# Altium schematic symbol library MyLibr1.SchLib: 87 symbols
Pins are listed as number, name and electrical type; pins without a type are passive.

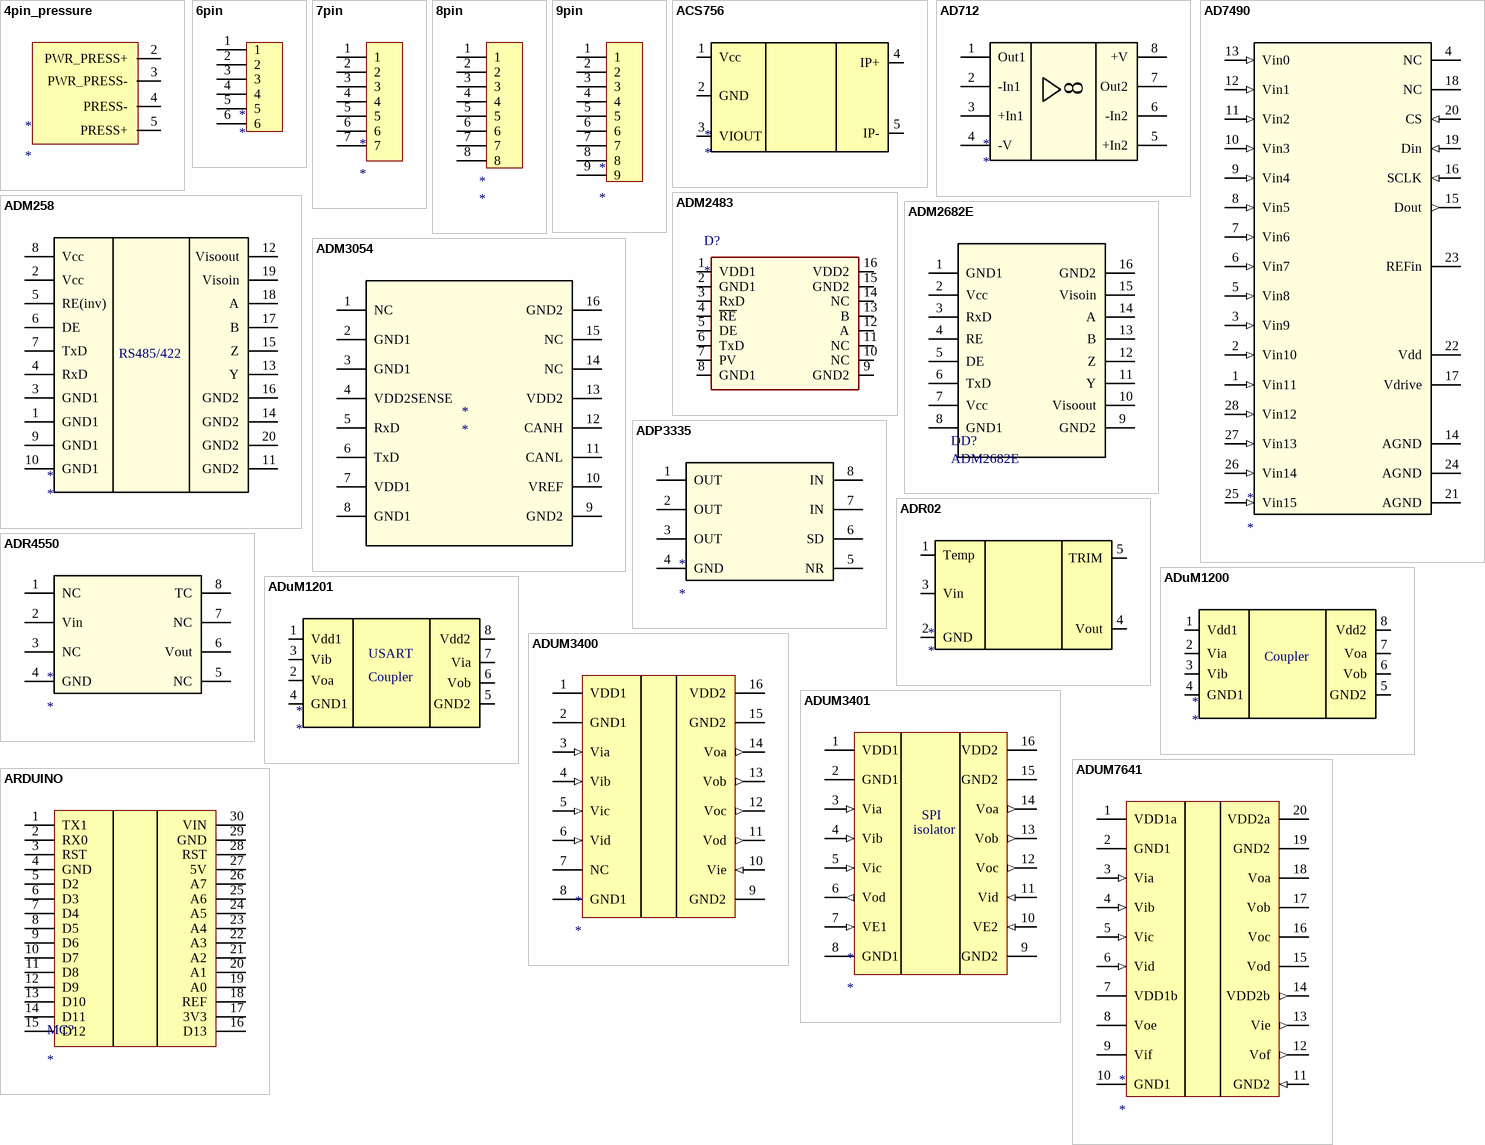
[diagram p0: symbols 4pin_pressure to ARDUINO]

## 4pin_pressure
designator *
footprint 4pin_pressure
pins: 2 PWR_PRESS+, 3 PWR_PRESS-, 4 PRESS-, 5 PRESS+

## 6pin
designator *
footprint 6pin
pins: 1, 2, 3, 4, 5, 6

## 7pin
designator *
pins: 1, 2, 3, 4, 5, 6, 7

## 8pin
designator *
footprint 10pin
pins: 1, 2, 3, 4, 5, 6, 7, 8

## 9pin
designator *
footprint 9PIN
pins: 1, 2, 3, 4, 5, 6, 7, 8, 9

## ACS756
designator *
pins: 1 Vcc, 2 GND, 3 VIOUT, 4 IP+, 5 IP-

## AD712
designator *
pins: 1 Out1, 2 -In1, 3 +In1, 4 -V, 5 +In2, 6 -In2, 7 Out2, 8 +V

## AD7490
designator *
footprint AD7490 (TSSOP, 28-Leads)
footprint Arduino Mini
pins: 1 Vin11 (in), 2 Vin10 (in), 3 Vin9 (in), 4 NC, 5 Vin8 (in), 6 Vin7 (in), 7 Vin6 (in), 8 Vin5 (in), 9 Vin4 (in), 10 Vin3 (in), 11 Vin2 (in), 12 Vin1 (in), 13 Vin0 (in), 14 AGND (power), 15 Dout (out), 16 SCLK (in), 17 Vdrive (power), 18 NC, 19 Din (in), 20 CS (in), 21 AGND (power), 22 Vdd (power), 23 REFin (power), 24 AGND (power), 25 Vin15 (in), 26 Vin14 (in), 27 Vin13 (in), 28 Vin12 (in)

## ADM258
designator *
pins: 1 GND1 (power), 2 Vcc (power), 3 GND1 (power), 4 RxD, 5 RE(inv), 6 DE, 7 TxD, 8 Vcc (power), 9 GND1 (power), 10 GND1 (power), 11 GND2 (power), 12 Visoout (power), 13 Y, 14 GND2 (power), 15 Z, 16 GND2 (power), 17 B, 18 A, 19 Visoin (power), 20 GND2 (power)
text: RS485/422

## ADM2483
designator D?
footprint ADM2483 (SOIC, 16-Leads, Body 10,30x7,50mm, Pitch 1,27mm, IPC Medium Density)
pins: 1 VDD1, 2 GND1, 3 RxD, 4 ~{RE}, 5 DE, 6 TxD, 7 PV, 8 GND1, 9 GND2, 10 NC, 11 NC, 12 A, 13 B, 14 NC, 15 GND2, 16 VDD2

## ADM2682E
designator DD?
footprint SOIC127P1030X265-16N (SOIC, 16-Leads, Body 12,75x7,50mm, Pitch 1,27mm, IPC Medium Density)
pins: 1 GND1 (power), 2 Vcc (power), 3 RxD, 4 RE, 5 DE, 6 TxD, 7 Vcc (power), 8 GND1 (power), 9 GND2 (power), 10 Visoout (power), 11 Y, 12 Z, 13 B, 14 A, 15 Visoin (power), 16 GND2 (power)

## ADM3054
designator *
footprint SOIC16N (SOIC, 16-Leads, Body 12,75x7,50mm, Pitch 1,27mm, IPC Medium Density)
pins: 1 NC, 2 GND1, 3 GND1, 4 VDD2SENSE, 5 RxD, 6 TxD, 7 VDD1, 8 GND1, 9 GND2, 10 VREF, 11 CANL, 12 CANH, 13 VDD2, 14 NC, 15 NC, 16 GND2

## ADP3335
designator *
footprint MSOP-8
pins: 1 OUT, 2 OUT, 3 OUT, 4 GND, 5 NR, 6 SD, 7 IN, 8 IN

## ADR02
designator *
footprint SOT95P245X110-5N (SOT23, 5-Leads, Body 2,90x2,45mm, Pitch 0,95mm, IPC Medium Density)
footprint SOT95P245X110-5N (SOT23, 5-Leads, Body 2,90x2,45mm, Pitch 0,95mm, IPC Medium Density)
pins: 1 Temp, 2 GND, 3 Vin, 4 Vout, 5 TRIM

## ADR4550
designator *
footprint SOIC8N (SOIC, 8-Leads, Body 4,90x3,90mm, Pitch 1,27mm, IPC Medium Density)
pins: 1 NC, 2 Vin, 3 NC, 4 GND, 5 NC, 6 Vout, 7 NC, 8 TC

## ADuM1200
designator *
pins: 1 Vdd1, 2 Via, 3 Vib, 4 GND1, 5 GND2, 6 Vob, 7 Voa, 8 Vdd2
text: Coupler

## ADuM1201
designator *
pins: 1 Vdd1, 2 Voa, 3 Vib, 4 GND1, 5 GND2, 6 Vob, 7 Via, 8 Vdd2
text: USART; Coupler

## ADUM3400
designator *
footprint SOIC-16 (SOIC, 16-Leads, Body 10,30x7,50mm, Pitch 1,27mm, IPC Medium Density)
pins: 1 VDD1, 2 GND1, 3 Via (in), 4 Vib (in), 5 Vic (in), 6 Vid (in), 7 NC, 8 GND1, 9 GND2, 10 Vie (in), 11 Vod (out), 12 Voc (out), 13 Vob (out), 14 Voa (out), 15 GND2, 16 VDD2

## ADUM3401
designator *
footprint SOIC-16 (SOIC, 16-Leads, Body 10,30x7,50mm, Pitch 1,27mm, IPC Medium Density)
pins: 1 VDD1, 2 GND1, 3 Via (in), 4 Vib (in), 5 Vic (in), 6 Vod (out), 7 VE1 (in), 8 GND1, 9 GND2, 10 VE2 (in), 11 Vid (in), 12 Voc (out), 13 Vob (out), 14 Voa (out), 15 GND2, 16 VDD2
text: SPI; isolator

## ADUM7641
designator *
footprint QSOP20
footprint QSOP-20
pins: 1 VDD1a, 2 GND1, 3 Via (in), 4 Vib (in), 5 Vic (in), 6 Vid (in), 7 VDD1b, 8 Voe, 9 Vif, 10 GND1, 11 GND2 (in), 12 Vof (out), 13 Vie (out), 14 VDD2b (out), 15 Vod, 16 Voc, 17 Vob, 18 Voa, 19 GND2, 20 VDD2a

## ARDUINO
designator MC?
footprint Arduino_Nano
pins: 1 TX1, 2 RX0, 3 RST, 4 GND, 5 D2, 6 D3, 7 D4, 8 D5, 9 D6, 10 D7, 11 D8, 12 D9, 13 D10, 14 D11, 15 D12, 16 D13, 17 3V3, 18 REF, 19 A0, 20 A1, 21 A2, 22 A3, 23 A4, 24 A5, 25 A6, 26 A7, 27 5V, 28 RST, 29 GND, 30 VIN

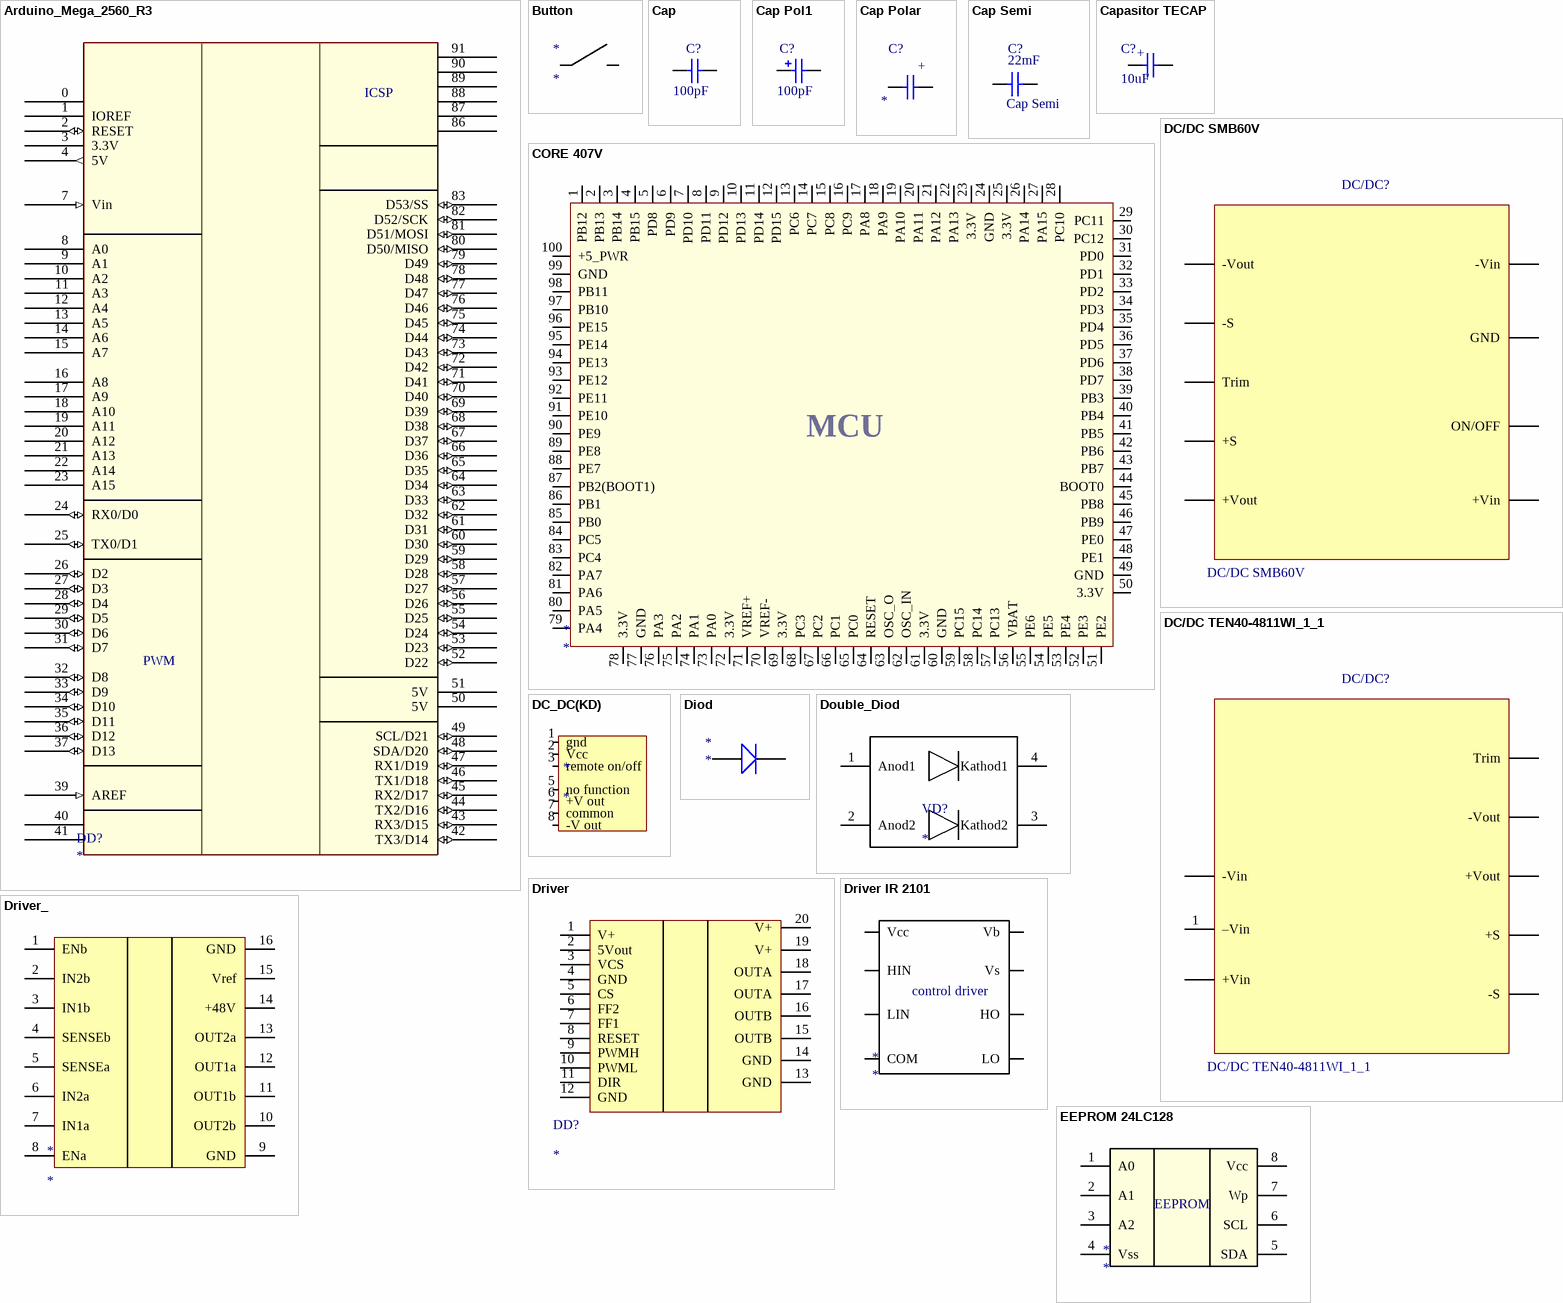
[diagram p1: symbols Arduino_Mega_2560_R3 to EEPROM 24LC128]

## Arduino_Mega_2560_R3
designator DD?
footprint Arduino_Mega_2560_R3
pins: 0  , 1 IOREF, 2 RESET (io), 3 3.3V (power), 4 5V (out), 5 GND (power) hidden to GND, 6 GND (power) hidden to GND, 7 Vin (in), 8 A0, 9 A1, 10 A2, 11 A3, 12 A4, 13 A5, 14 A6, 15 A7, 16 A8, 17 A9, 18 A10, 19 A11, 20 A12, 21 A13, 22 A14, 23 A15, 24 RX0/D0 (io), 25 TX0/D1 (io), 26 D2 (io), 27 D3 (io), 28 D4 (io), 29 D5 (io), 30 D6 (io), 31 D7 (io), 32 D8 (io), 33 D9 (io), 34 D10 (io), 35 D11 (io), 36 D12 (io), 37 D13 (io), 38 GND (power) hidden to GND, 39 AREF (in), 40  , 41  , 42 TX3/D14 (io), 43 RX3/D15 (io), 44 TX2/D16 (io), 45 RX2/D17 (io), 46 TX1/D18 (io), 47 RX1/D19 (io), 48 SDA/D20 (io), 49 SCL/D21 (io), 50 5V (power), 51 5V (power), 52 D22 (io), 53 D23 (io), 54 D24 (io), 55 D25 (io), 56 D26 (io), 57 D27 (io), 58 D28 (io), 59 D29 (io), 60 D30 (io), 61 D31 (io), 62 D32 (io), 63 D33 (io), 64 D34 (io), 65 D35 (io), 66 D36 (io), 67 D37 (io), 68 D38 (io), 69 D39 (io), 70 D40 (io), 71 D41 (io), 72 D42 (io), 73 D43 (io), 74 D44 (io), 75 D45 (io), 76 D46 (io), 77 D47 (io), 78 D48 (io), 79 D49 (io), 80 D50/MISO (io), 81 D51/MOSI (io), 82 D52/SCK (io), 83 D53/SS (io), 84 GND (power) hidden to GND, 85 GND (power) hidden to GND, 86  , 87  , 88  , 89  , 90  , 91  
text: ICSP; PWM

## Button
designator *
footprint Button (SODFL, 2-Leads, Body 3,70x8,00mm, IPC Medium Density)
pins: 1, 2

## Cap
designator C?  value 100pF  (hidden comment: Cap)
Capacitor; Published: 8-Jun-2000; LatestRevisionDate: 17-Jul-2002; LatestRevisionNote: Re-released for DXP Platform.; PackageReference: RAD-0.3; Publisher: Altium Limited; PackageDescription: Radial Cap, Thru-Hole; 2 Leads; 0.3 in Pin Spacing
footprint 6-0805_M
pins: 1, 2

## Cap Pol1
designator C?  value 100pF  (hidden comment: Cap Pol1)
Polarized Capacitor (Radial); Published: 8-Jun-2000; LatestRevisionDate: 17-Jul-2002; LatestRevisionNote: Re-released for DXP Platform.; PackageReference: RB7.6-15; Publisher: Altium Limited; PackageDescription: Polarized Capacitor (Radial); 2 Leads
footprint K50-35 (D6.3)
pins: 1, 2
1 alternate drawing of the same symbol

## Cap Polar
designator C?
footprint K50-35 (D6.3)
pins: 1, 2
text: +

## Cap Semi
designator C?  value 22mF
Capacitor (Semiconductor SIM Model); Published: 8-Jun-2000; LatestRevisionDate: 29-May-2009; LatestRevisionNote: IPC-7351 Footprint Added.; PackageReference: C1206; Publisher: Altium Limited; PackageDescription: Chip Capacitor
footprint C1206 (Chip Capacitor, Body 3.2x1.6mm, IPC High Density)
footprint 0402 (Chip Capacitor, Body 1.0x0.5mm, IPC High Density)
footprint C2512 (Chip Capacitor, Body 2.54x1.27mm, IPC High Density)
footprint 1608[0603] (Chip Capacitor, Body 1.6x0.8mm, IPC High Density)
footprint C1210 (Chip Capacitor, Body 3.2x2.5mm, IPC High Density)
footprint C_1812 (Chip Capacitor, Body 4.5x3.2mm, IPC High Density)
footprint C_0805 (Chip Capacitor, Body 2.0x1.3mm, IPC High Density)
pins: 1, 2

## Capasitor TECAP
designator C?, comment 10uF
footprint TECAP (Chip Capacitor, 2-Leads, Body 3,50x2,80mm, IPC Medium Density)
pins: 1, 2
text: +

## CORE 407V
designator *
footprint CORE 407
pins: 1 PB12, 2 PB13, 3 PB14, 4 PB15, 5 PD8, 6 PD9, 7 PD10, 8 PD11, 9 PD12, 10 PD13, 11 PD14, 12 PD15, 13 PC6, 14 PC7, 15 PC8, 16 PC9, 17 PA8, 18 PA9, 19 PA10, 20 PA11, 21 PA12, 22 PA13, 23 3.3V, 24 GND, 25 3.3V, 26 PA14, 27 PA15, 28 PC10, 29 PC11, 30 PC12, 31 PD0, 32 PD1, 33 PD2, 34 PD3, 35 PD4, 36 PD5, 37 PD6, 38 PD7, 39 PB3, 40 PB4, 41 PB5, 42 PB6, 43 PB7, 44 BOOT0, 45 PB8, 46 PB9, 47 PE0, 48 PE1, 49 GND, 50 3.3V, 51 PE2, 52 PE3, 53 PE4, 54 PE5, 55 PE6, 56 VBAT, 57 PC13, 58 PC14, 59 PC15, 60 GND, 61 3.3V, 62 OSC_IN, 63 OSC_O, 64 RESET, 65 PC0, 66 PC1, 67 PC2, 68 PC3, 69 3.3V, 70 VREF-, 71 VREF+, 72 3.3V, 73 PA0, 74 PA1, 75 PA2, 76 PA3, 77 GND, 78 3.3V, 79 PA4, 80 PA5, 81 PA6, 82 PA7, 83 PC4, 84 PC5, 85 PB0, 86 PB1, 87 PB2(BOOT1), 88 PE7, 89 PE8, 90 PE9, 91 PE10, 92 PE11, 93 PE12, 94 PE13, 95 PE14, 96 PE15, 97 PB10, 98 PB11, 99 GND, 100 +5_PWR
text: MCU

## DC/DC SMB60V
designator DC/DC?
datasheet: http://newet.ru/upload/iblock/da3/da32c35c0007bb917bca288ed4fe9d4e.pdf
footprint SMB60V
pins: +S, +Vin, +Vout, -S, -Vin, -Vout, GND, ON/OFF, Trim

## DC/DC TEN40-4811WI_1_1
designator DC/DC?
datasheet: http://www.tracopower.com/products/ten40wi-application.pdf
footprint TEN 40
pins: 1 –Vin, +S, +Vin, +Vout, -S, -Vin, -Vout, Trim

## DC_DC(KD)
designator *
footprint SIP-8
pins: 1 gnd, 2 Vcc, 3 remote on/off, 5 no function, 6 +V out, 7 common, 8 -V out

## Diod
designator *
footprint 6-0805_M
footprint do-41
footprint DIOMELF2511N (MELF Diode, 2-Leads, Body 2,55x1,10mm, IPC Medium Density)
pins: 1 A, 2 K

## Double_Diod
designator VD?
footprint Double_Diod
pins: 1 Anod1, 2 Anod2, 3 Kathod2, 4 Kathod1

## Driver
designator DD?
footprint Driver_Pads
pins: 1 V+, 2 5Vout, 3 VCS, 4 GND, 5 CS, 6 FF2, 7 FF1, 8 RESET, 9 PWMH, 10 PWML, 11 DIR, 12 GND, 13 GND, 14 GND, 15 OUTB, 16 OUTB, 17 OUTA, 18 OUTA, 19 V+, 20 V+

## Driver IR 2101
designator *
footprint Dip 8 for LUT
pins: 1 Vcc, 2 HIN, 3 LIN, 4 COM, 5 LO, 6 Vs, 7 HO, 8 Vb
text: control driver

## Driver_
designator *
footprint Driver_
pins: 1 ENb, 2 IN2b, 3 IN1b, 4 SENSEb, 5 SENSEa, 6 IN2a, 7 IN1a, 8 ENa, 9 GND, 10 OUT2b, 11 OUT1b, 12 OUT1a, 13 OUT2a, 14 +48V, 15 Vref, 16 GND

## EEPROM 24LC128
designator *
pins: 1 A0, 2 A1, 3 A2, 4 Vss, 5 SDA, 6 SCL, 7 Wp, 8 Vcc
text: EEPROM

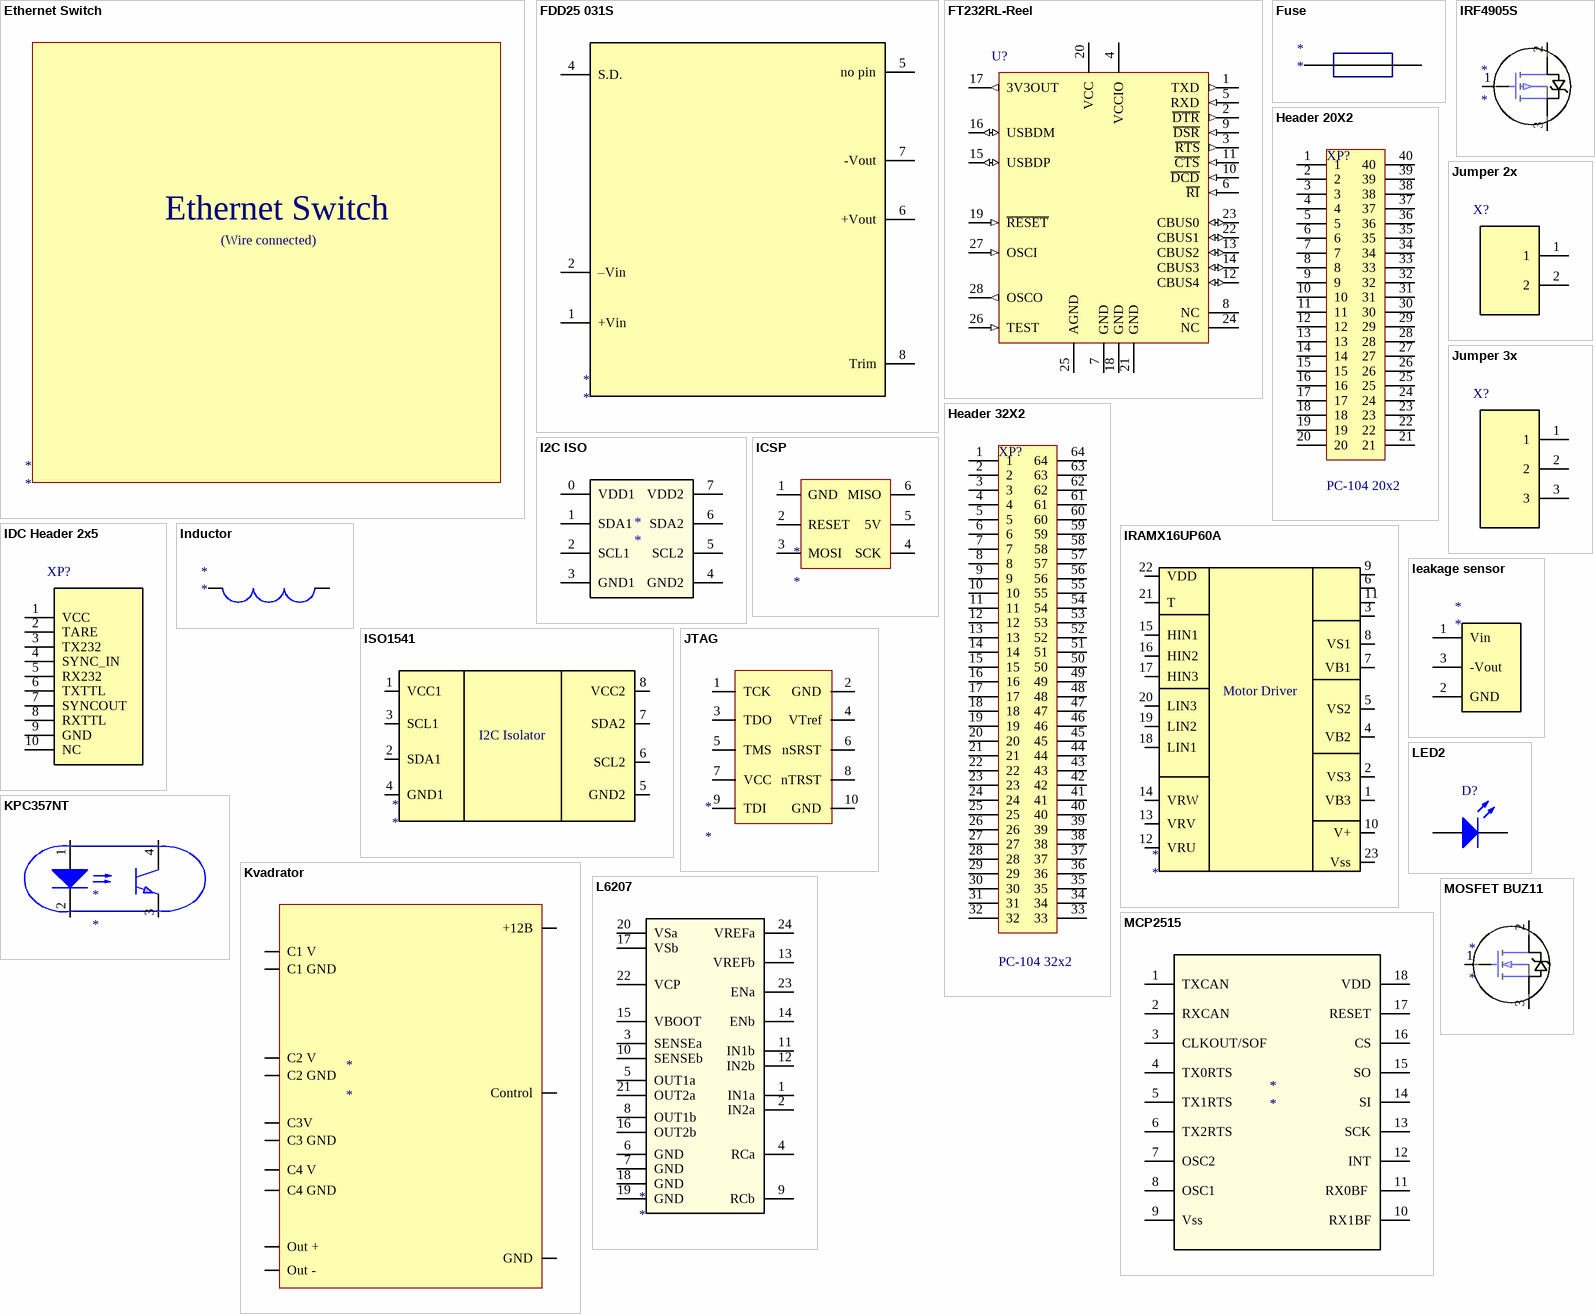
[diagram p2: symbols Ethernet Switch to MOSFET BUZ11]

## Ethernet Switch
designator *
text: (Wire connected)

## FDD25 031S
designator *
footprint FDD25 - 03S1
pins: 1 +Vin, 2 –Vin, 4 S.D., 5 no pin, 6 +Vout, 7 -Vout, 8 Trim

## FT232RL-Reel
designator U?
USB UART Asynchronous Serial Data Transfer Chip, SSOP-28, Tape and Reel; Published: 19-Aug-2010; DatasheetVersion: ver 2.07, Jul-2010; PackageVersion: 2010; PackageReference: SSOP-28; Publisher: Altium Limited; PackageDescription: 28-Pin Small Outline Package 0.65 mm Pitch; ComponentLink1Description: Manufacturer Link; ComponentLink1URL: http://www.ftdichip.com/Products/ICs/FT232R.htm; ComponentLink2Description: Datasheet; ComponentLink2URL: http://www.ftdichip.com/Support/Documents/DataSheets/ICs/DS_FT232R.pdf
footprint SSOP-28_L
footprint SSOP-28_M (SOP, 28-Leads, Body 10.2x5.3mm, Pitch 0.65mm, IPC Low Density)
footprint SSOP-28_N (SOP, 28-Leads, Body 10.2x5.3mm, Pitch 0.65mm, IPC Medium Density)
pins: 1 TXD (out), 2 ~{DTR} (out), 3 ~{RTS} (out), 4 VCCIO (power), 5 RXD (in), 6 ~{RI} (in), 7 GND (power), 8 NC, 9 ~{DSR} (in), 10 ~{DCD} (in), 11 ~{CTS} (in), 12 CBUS4 (io), 13 CBUS2 (io), 14 CBUS3 (io), 15 USBDP (io), 16 USBDM (io), 17 3V3OUT (out), 18 GND (power), 19 ~{RESET} (in), 20 VCC (power), 21 GND (power), 22 CBUS1 (io), 23 CBUS0 (io), 24 NC, 25 AGND (power), 26 TEST (in), 27 OSCI (in), 28 OSCO (out)

## Fuse
designator *
pins: 1, 2

## Header 20X2
designator XP?, comment PC-104 20x2
Header, 20-Pin, Dual row; LatestRevisionDate: 17-Jul-2002; LatestRevisionNote: Re-released for DXP Platform.; Publisher: Altium Limited
footprint 2x20 PC-104 (Connector; Header; 20x2 Position)
pins: 1, 2, 3, 4, 5, 6, 7, 8, 9, 10, 11, 12, 13, 14, 15, 16, 17, 18, 19, 20, 21, 22, 23, 24, 25, 26, 27, 28, 29, 30, 31, 32, 33, 34, 35, 36, 37, 38, 39, 40

## Header 32X2
designator XP?, comment PC-104 32x2
Header, 32-Pin, Dual row; LatestRevisionDate: 17-Jul-2002; LatestRevisionNote: Re-released for DXP Platform.; Publisher: Altium Limited
footprint 2x32 PC-104 (Connector; Header; 32x2 Position 2.54mm)
pins: 1 "test", 2, 3, 4, 5, 6, 7, 8, 9, 10, 11, 12, 13, 14, 15, 16, 17, 18, 19, 20, 21, 22, 23, 24, 25, 26, 27, 28, 29, 30, 31, 32, 33, 34, 35, 36, 37, 38, 39, 40, 41, 42, 43, 44, 45, 46, 47, 48, 49, 50, 51, 52, 53, 54, 55, 56, 57, 58, 59, 60, 61, 62, 63, 64

## I2C ISO
designator *
pins: 0 VDD1, 1 SDA1, 2 SCL1, 3 GND1, 4 GND2, 5 SCL2, 6 SDA2, 7 VDD2

## ICSP
designator *
footprint 6pin
footprint SPI
pins: 1 GND, 2 RESET, 3 MOSI, 4 SCK, 5 5V, 6 MISO

## IDC Header 2x5
designator XP?  (value not drawn)
footprint IDC-10F 2x5 2.0mm
pins: 1 VCC, 2 TARE, 3 TX232, 4 SYNC_IN, 5 RX232, 6 TXTTL, 7 SYNCOUT, 8 RXTTL, 9 GND, 10 NC

## Inductor
designator *
footprint 0805
pins: 1, 2 5

## IRAMX16UP60A
designator *
footprint IRAMX16UP60A
pins: 1 VB3, 2 VS3, 3 VS3, 4 VB2, 5 VS2, 6 VS2, 7 VB1, 8 VS1, 9 VS1, 10 V+, 11 V+, 12 VRU, 13 VRV, 14 VRW, 15 HIN1, 16 HIN2, 17 HIN3, 18 LIN1, 19 LIN2, 20 LIN3, 21 T, 22 VDD, 23 Vss
text: Motor Driver

## IRF4905S
designator *
footprint IRF4905S (D2-PAK, 3-Pads, Body 8,21x8,63mm (max), IPC Medium Density)
pins: 1, 2, 3

## ISO1541
designator *
pins: 1 VCC1, 2 SDA1, 3 SCL1, 4 GND1, 5 GND2, 6 SCL2, 7 SDA2, 8 VCC2
text: I2C Isolator

## JTAG
designator *
footprint JTAG
pins: 1 TCK, 2 GND, 3 TDO, 4 VTref, 5 TMS, 6 nSRST, 7 VCC, 8 nTRST, 9 TDI, 10 GND

## Jumper 2x
designator X?  (value not drawn)
footprint Jumper_2 (перемычка для плат)
pins: 1, 2

## Jumper 3x
designator X?  (value not drawn)
footprint Power PLUG
footprint Jumper_3 (перемычка для плат)
pins: 1, 2, 3

## KPC357NT
designator *
footprint Micro
pins: 1 A, 2 K, 3, 4

## Kvadrator
designator *
footprint Kvadrator
pins: 0 +12B, 0 C1 GND, 0 C1 V, 0 C2 V, 0 C2 GND, 0 C3V, 0 C3 GND, 0 C4 V, 0 C4 GND, 0 Out +, 0 Out -, 0 Control, 1 GND

## L6207
designator *
footprint SO24
pins: 1 IN1a, 2 IN2a, 3 SENSEa, 4 RCa, 5 OUT1a, 6 GND, 7 GND, 8 OUT1b, 9 RCb, 10 SENSEb, 11 IN1b, 12 IN2b, 13 VREFb, 14 ENb, 15 VBOOT, 16 OUT2b, 17 VSb, 18 GND, 19 GND, 20 VSa, 21 OUT2a, 22 VCP, 23 ENa, 24 VREFa

## leakage sensor
designator *
footprint SOT23
pins: 1 Vin, 2 GND, 3 -Vout

## LED2
designator D?  (value not drawn)
Typical RED, GREEN, YELLOW, AMBER GaAs LED; Published: 8-Jun-2000; LatestRevisionDate: 17-Jul-2002; LatestRevisionNote: Re-released for DXP Platform.; PackageVersion: Feb-2002; PackageReference: 3.2X1.6X1.1; Publisher: Altium Limited; PackageDescription: SM LED; 2 Flat Leads
footprint 3.2X1.6X1.1 (Footprint not found)
footprint 6-0805_M
pins: 1 A, 2 K

## MCP2515
designator *
footprint SOIC18N (SOIC, 18-Leads, Body 11,53x7,50mm, Pitch 1,27mm, IPC Medium Density)
pins: 1 TXCAN, 2 RXCAN, 3 CLKOUT/SOF, 4 TX0RTS, 5 TX1RTS, 6 TX2RTS , 7 OSC2, 8 OSC1 , 9 Vss, 10 RX1BF, 11 RX0BF , 12 INT, 13 SCK, 14 SI, 15 SO, 16 CS, 17 RESET, 18 VDD

## MOSFET BUZ11
designator *
footprint Mosfet
pins: 1, 2, 3

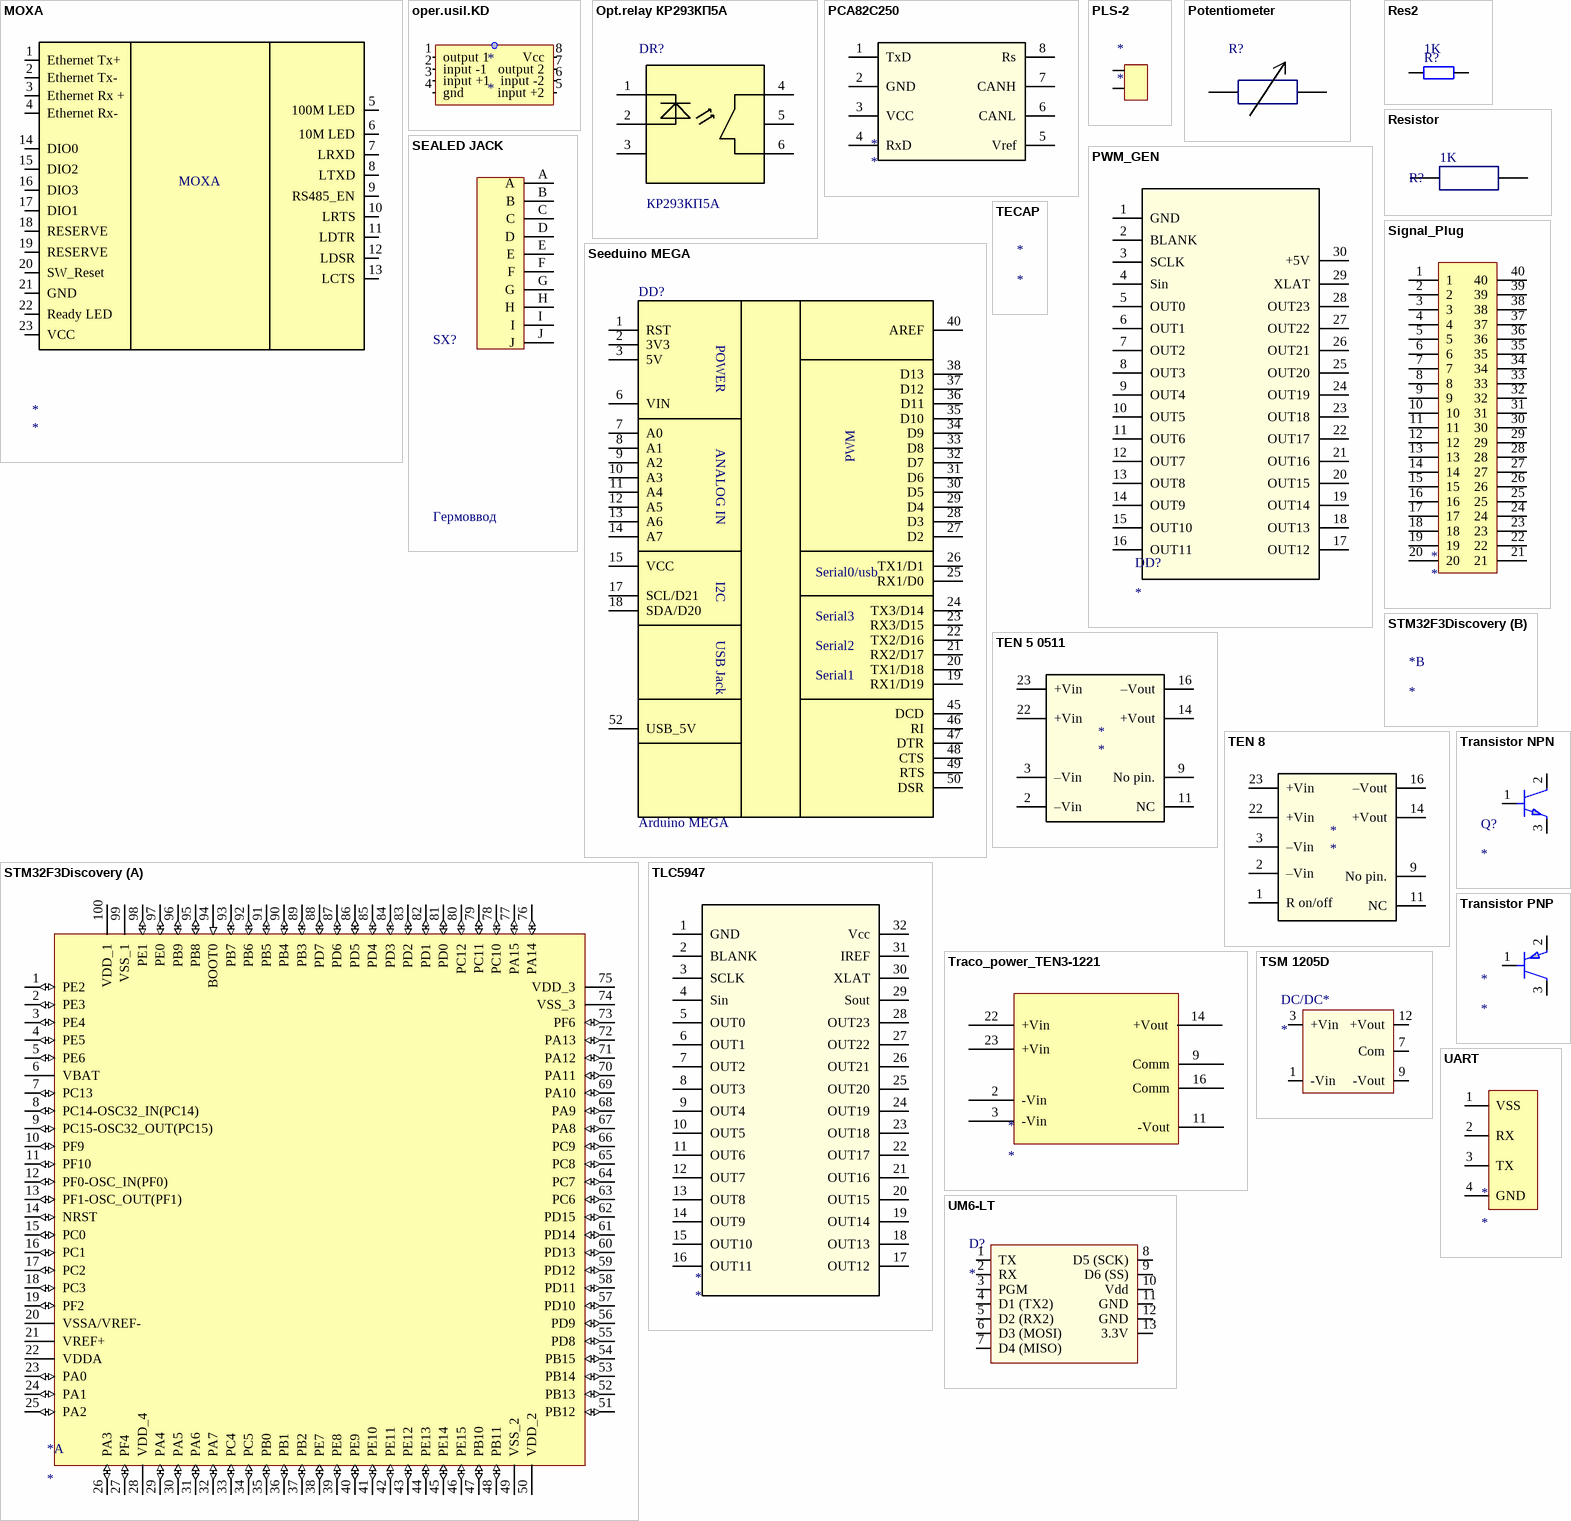
[diagram p3: symbols MOXA to UM6-LT]

## MOXA
designator *
pins: 1 Ethernet Tx+, 2 Ethernet Tx-, 3 Ethernet Rx + , 4 Ethernet Rx-, 5 100M LED, 6 10M LED, 7 LRXD, 8 LTXD, 9 RS485_EN, 10 LRTS, 11 LDTR, 12 LDSR, 13 LCTS, 14 DIO0, 15 DIO2, 16 DIO3, 17 DIO1, 18 RESERVE, 19 RESERVE, 20 SW_Reset, 21 GND, 22 Ready LED, 23 VCC

## oper.usil.KD
designator *
footprint DIP-8
pins: 1 output 1, 2 input -1, 3 input +1, 4 gnd, 5 input +2, 6 input -2, 7 output 2, 8 Vcc

## Opt.relay КР293КП5А
designator DR?, comment КР293КП5А
footprint DIP-6
pins: 1, 2, 3, 4, 5, 6

## PCA82C250
designator *
footprint SOIC8N (SOIC, 8-Leads, Body 4,90x3,90mm, Pitch 1,27mm, IPC Medium Density)
pins: 1 TxD, 2 GND, 3 VCC, 4 RxD, 5 Vref, 6 CANL, 7 CANH, 8 Rs

## PLS-2
designator *
footprint PLS-2
pins: 1, 2

## Potentiometer
designator R?  (value not drawn)
footprint 3266W
pins: 1, 2, 3

## PWM_GEN
designator DD?
footprint PWM_GEN
pins: 1 GND, 2 BLANK, 3 SCLK, 4 Sin, 5 OUT0, 6 OUT1, 7 OUT2, 8 OUT3, 9 OUT4, 10 OUT5, 11 OUT6, 12 OUT7, 13 OUT8, 14 OUT9, 15 OUT10, 16 OUT11, 17 OUT12, 18 OUT13, 19 OUT14, 20 OUT15, 21 OUT16, 22 OUT17, 23 OUT18, 24 OUT19, 25 OUT20, 26 OUT21, 27 OUT22, 28 OUT23, 29 XLAT, 30 +5V

## Res2
designator R?  value 1K  (hidden comment: Res2)
Resistor; Published: 8-Jun-2000; LatestRevisionDate: 17-Jul-2002; LatestRevisionNote: Re-released for DXP Platform.; PackageReference: AXIAL-0.4; Publisher: Altium Limited; PackageDescription: Axial Device, Thru-Hole; 2 Leads; 0.4 in Pin Spacing
footprint 6-0805_M
pins: 1, 2

## Resistor
designator R?  value 1K  (hidden comment: Resistor)
Published: 8-Jun-2000; LatestRevisionDate: 29-May-2009; LatestRevisionNote: IPC-7351 Footprint Added.; PackageReference: J1-0603; Publisher: Altium Limited; PackageDescription: Chip Resistor
footprint R_C1-4 1W
footprint 6-0805_M
pins: 1, 2

## SEALED JACK
designator SX?, comment Гермоввод
footprint SealedJack 10 (Гермоввод 10 пинов)
footprint SealedJack 4 (Гермоввод 4 пина)
footprint SealedJack 7 Round (Гермоввод 7 пинов)
footprint SEALEDJACK 7 long (Гермоввод 7 пинов, вытянутой гнездо)
footprint SEALEDJACK 4 long (Гермоввод 4 пинов, вытянутое гнездо)
pins: A, B, C, D, E, F, G, H, I, J
2 alternate drawings of the same symbol

## Seeduino MEGA
designator DD?, comment Arduino MEGA
footprint Seeduino Mega w/USB
pins: 1 RST, 2 3V3, 3 5V, 4 GND (power) hidden to GND, 5 GND (power) hidden to GND, 6 VIN, 7 A0, 8 A1, 9 A2, 10 A3, 11 A4, 12 A5, 13 A6, 14 A7, 15 VCC, 16 GND (power) hidden to GND, 17 SCL/D21, 18 SDA/D20, 19 RX1/D19, 20 TX1/D18, 21 RX2/D17, 22 TX2/D16, 23 RX3/D15, 24 TX3/D14, 25 RX1/D0, 26 TX1/D1, 27 D2, 28 D3, 29 D4, 30 D5, 31 D6, 32 D7, 33 D8, 34 D9, 35 D10, 36 D11, 37 D12, 38 D13, 39 GND (power) hidden to GND, 40 AREF, 45 DCD, 46 RI, 47 DTR, 48 CTS, 49 RTS, 50 DSR, 51 GND hidden to GND, 52 USB_5V
text: POWER; ANALOG IN; PWM; I2C; Serial0/usb; Serial3; USB Jack; Serial2; Serial1

## Signal_Plug
designator *
pins: 1, 2, 3, 4, 5, 6, 7, 8, 9, 10, 11, 12, 13, 14, 15, 16, 17, 18, 19, 20, 21, 22, 23, 24, 25, 26, 27, 28, 29, 30, 31, 32, 33, 34, 35, 36, 37, 38, 39, 40

## STM32F3Discovery
designator *
part A pins: 1 PE2 (io) "PE2/TRACECK,TIM3_CH1,TSC_G7_IO1,EVENTOUT", 2 PE3 (io) "PE3/TRACED0,TIM3_CH2,TSC_G7_IO2,EVENTOUT", 3 PE4 (io) "PE4/TRACED1,TIM3_CH3,TSC_G7_IO3,EVENTOUT", 4 PE5 (io) "PE5/TRACED2,TIM3_CH4,TSC_G7_IO4,EVENTOUT", 5 PE6 (io) "PE6/TRACED3,EVENTOUT/WKUP3,RTC_TAMP3", 6 VBAT (power) "Backup power supply", 7 PC13 (io) "PC13/TIM1_CH1N/WKUP2,RTC_TAMP1,RTC_TS,RTC_OUT", 8 PC14-OSC32_IN(PC14) (io) "PC14-OSC32_IN(PC14)/OSC32_IN", 9 PC15-OSC32_OUT(PC15) (io) "PC15-OSC32_OUT(PC15)/OSC32_OUT", 10 PF9 (io) "PF9/TIM15_CH1,SPI2_SCK,EVENTOUT", 11 PF10 (io) "PF10/TIM15_CH2,SPI2_SCK,EVENTOUT", 12 PF0-OSC_IN(PF0) (io) "PF0-OSC_IN(PF0)/TIM1_CH3N,I2C2_SDA/OSC_IN", 13 PF1-OSC_OUT(PF1) (io) "PF1-OSC_OUT(PF1)/I2C2_SCL/OSC_OUT", 14 NRST (io) "Device reset input / internal reset output (active low)", 15 PC0 (io) "PC0/EVENTOUT/ADC12_IN6,COMP7_INM", 16 PC1 (io) "PC1/EVENTOUT/ADC12_IN7,COMP7_INP", 17 PC2 (io) "PC2/COMP7_OUT,EVENTOUT/ADC12_IN8", 18 PC3 (io) "PC3/TIM1_BKIN2,EVENTOUT/ADC12_IN9", 19 PF2 (io) "PF2/EVENTOUT/ADC12_IN10", 20 VSSA/VREF- (power) "Analog ground/Negative reference voltage", 21 VREF+ (power) "Positive reference voltage", 22 VDDA (power) "Analog power supply", 23 PA0 (io) "PA0/USART2_CTS,TIM2_CH1_ETR,TIM8_BKIN,TIM8_ETR,TSC_G1_IO1,COMP1_OUT,EVENTOUT/ADC1_IN1,COMP1_INM,RTC_TAMP2,WKUP1,COMP7_INP", 24 PA1 (io) "PA1/USART2_RTS,TIM2_CH2,TSC_G1_IO2,TIM15_CH1N,RTC_REFIN,EVENTOUT/ADC1_IN2,COMP1_INP,OPAMP1_VINP,OPAMP3_VINP", 25 PA2 (io) "PA2/USART2_TX,TIM2_CH3,TIM15_CH1,TSC_G1_IO3,COMP2_OUT,EVENTOUT/ADC1_IN3,COMP2_INM,OPAMP1_VOUT", 26 PA3 (io) "PA3/USART2_RX,TIM2_CH4,TIM15_CH2,TSC_G1_IO4,EVENTOUT/ADC1_IN4,OPAMP1_VINP,COMP2_INP,OPAMP1_VINM", 27 PF4 (io) "PF4/COMP1_OUT,EVENTOUT/ADC1_IN5", 28 VDD_4 (power) "Digital power supply", 29 PA4 (io) "PA4/SPI1_NSS,SPI3_NSS,I2S3_WS,USART2_CK,TSC_G2_IO1,TIM3_CH2,EVENTOUT/ADC2_IN1,DAC1_OUT1,OPAMP4_VINP,COMP1_INM,COMP2_INM,COMP3_INM,COMP4_INM,COMP5_INM,COMP6_INM,COMP7_INM", 30 PA5 (io) "PA5/SPI1_SCK,TIM2_CH1_ETR,TSC_G2_IO2,EVENTOUT/ADC2_IN2,DAC1_OUT2,OPAMP1_VINP,OPAMP2_VINM,OPAMP3_VINP,COMP1_INM,COMP2_INM,COMP3_INM,COMP4_INM,COMP5_INM,COMP6_INM,COMP7_INM", 31 PA6 (io) "PA6/SPI1_MISO,TIM3_CH1,TIM8_BKIN,TIM1_BKIN,TIM16_CH1,COMP1_OUT,TSC_G2_IO3,EVENTOUT/ADC2_IN3,OPAMP2_VOUT", 32 PA7 (io) "PA7/SPI1_MOSI,TIM3_CH2,TIM17_CH1,TIM1_CH1N,TIM8_CH1N,TSC_G2_IO4,COMP2_OUT,EVENTOUT/ADC2_IN4,COMP2_INP,OPAMP2_VINP,OPAMP1_VINP", 33 PC4 (io) "PC4/USART1_TX,EVENTOUT/ADC2_IN5", 34 PC5 (io) "PC5/USART1_RX,TSC_G3_IO1,EVENTOUT/ADC2_IN11,OPAMP2_VINM,OPAMP1_VINM", 35 PB0 (io) "PB0/TIM3_CH3,TIM1_CH2N,TIM8_CH2N,TSC_G3_IO2,EVENTOUT/ADC3_IN12,COMP4_INP,OPAMP3_VINP,OPAMP2_VINP", 36 PB1 (io) "PB1/TIM3_CH4,TIM1_CH3N,TIM8_CH3N,COMP4_OUT,TSC_G3_IO3,EVENTOUT/ADC3_IN1,OPAMP3_VOUT", 37 PB2 (io) "PB2/TSC_G3_IO4,EVENTOUT/ADC2_IN12,COMP4_INM,OPAMP3_VINM", 38 PE7 (io) "PE7/TIM1_ETR,EVENTOUT/ADC3_IN13,COMP4_INP", 39 PE8 (io) "PE8/TIM1_CH1N,EVENTOUT/COMP4_INM,ADC34_IN6", 40 PE9 (io) "PE9/TIM1_CH1,EVENTOUT/ADC3_IN2", 41 PE10 (io) "PE10/TIM1_CH2N,EVENTOUT/ADC3_IN14", 42 PE11 (io) "PE11/TIM1_CH2,EVENTOUT/ADC3_IN15", 43 PE12 (io) "PE12/TIM1_CH3N,EVENTOUT/ADC3_IN16", 44 PE13 (io) "PE13/TIM1_CH3,EVENTOUT/ADC3_IN3", 45 PE14 (io) "PE14/TIM1_CH4,TIM1_BKIN2,EVENTOUT/ADC4_IN1", 46 PE15 (io) "PE15/USART3_RX,TIM1_BKIN,EVENTOUT/ADC4_IN2", 47 PB10 (io) "PB10/USART3_TX,TIM2_CH3,TSC_SYNC,EVENTOUT/COMP5_INM,OPAMP4_VINM,OPAMP3_VINM", 48 PB11 (io) "PB11/USART3_RX,TIM2_CH4,TSC_G6_IO1,EVENTOUT/COMP6_INP,OPAMP4_VINP", 49 VSS_2 (power) "Digital ground", 50 VDD_2 (power) "Digital power supply", 51 PB12 (io) "PB12/SPI2_NSS,I2S2_WS,I2C2_SMBA,USART3_CK,TIM1_BKIN,TSC_G6_IO2,EVENTOUT/ADC4_IN3,COMP3_INM,OPAMP4_VOUT", 52 PB13 (io) "PB13/SPI2_SCK,I2S2_CK,USART3_CTS,TIM1_CH1N,TSC_G6_IO3,EVENTOUT/ADC3_IN5,COMP5_INP,OPAMP4_VINP,OPAMP3_VINP", 53 PB14 (io) "PB14/SPI2_MISO,I2S2ext_SD,USART3_RTS,TIM1_CH2N,TIM15_CH1,TSC_G6_IO4,EVENTOUT/COMP3_INP,ADC4_IN4,OPAMP2_VINP", 54 PB15 (io) "PB15/SPI2_MOSI,I2S2_SD,TIM1_CH3N,RTC_REFIN,TIM15_CH1N,TIM15_CH2,EVENTOUT/ADC4_IN5,COMP6_INM", 55 PD8 (io) "PD8/USART3_TX,EVENTOUT/ADC4_IN12,OPAMP4_VINM", 56 PD9 (io) "PD9/USART3_RX,EVENTOUT/ADC4_IN13", 57 PD10 (io) "PD10/USART3_CK,EVENTOUT/ADC34_IN7,COMP6_INM", 58 PD11 (io) "PD11/USART3_CTS,EVENTOUT/ADC34_IN8,COMP6_INP,OPAMP4_VINP", 59 PD12 (io) "PD12/USART3_RTS,TIM4_CH1,TSC_G8_IO1,EVENTOUT/ADC34_IN9,COMP5_INP", 60 PD13 (io) "PD13/TIM4_CH2,TSC_G8_IO2,EVENTOUT/ADC34_IN10,COMP5_INM", 61 PD14 (io) "PD14/TIM4_CH3,TSC_G8_IO3,EVENTOUT/COMP3_INP,ADC34_IN11,OPAMP2_VINP", 62 PD15 (io) "PD15/SPI2_NSS,TIM4_CH4,TSC_G8_IO4,EVENTOUT/COMP3_INM", 63 PC6 (io) "PC6/I2S2_MCK,COMP6_OUT,TIM8_CH1,TIM3_CH1,EVENTOUT", 64 PC7 (io) "PC7/I2S3_MCK,TIM8_CH2,TIM3_CH2,COMP5_OUT,EVENTOUT", 65 PC8 (io) "PC8/TIM8_CH3,TIM3_CH3,COMP3_OUT,EVENTOUT", 66 PC9 (io) "PC9/TIM8_CH4,TIM8_BKIN2,TIM3_CH4,I2S_CKIN,EVENTOUT", 67 PA8 (io) "PA8/I2C2_SMBA,I2S2_MCK,USART1_CK,TIM1_CH1,TIM4_ETR,MCO,COMP3_OUT,EVENTOUT", 68 PA9 (io) "PA9/I2C2_SCL,I2S3_MCK,USART1_TX,TIM1_CH2,TIM2_CH3,TIM15_BKIN,TSC_G4_IO1,COMP5_OUT,EVENTOUT", 69 PA10 (io) "PA10/I2C2_SDA,USART1_RX,TIM1_CH3,TIM2_CH4,TIM8_BKIN,TIM17_BKIN,TSC_G4_IO2,COMP6_OUT,EVENTOUT", 70 PA11 (io) "PA11/USART1_CTS,USB_DM,CAN_RX,TIM1_CH1N,TIM1_CH4,TIM1_BKIN2,TIM4_CH1,COMP1_OUT,EVENTOUT", 71 PA12 (io) "PA12/USART1_RTS,USB_DP,CAN_TX,TIM1_CH2N,TIM1_ETR,TIM4_CH2,TIM16_CH1,COMP2_OUT,EVENTOUT", 72 PA13 (io) "PA13/USART3_CTS,TIM4_CH3,TIM16_CH1N,TSC_G4_IO3,IR_OUT,SWDIO-JTMS,EVENTOUT", 73 PF6 (io) "PF6/I2C2_SCL,USART3_RTS,TIM4_CH4,EVENTOUT", 74 VSS_3 (power) "Ground", 75 VDD_3 (power) "Digital power supply", 76 PA14 (io) "PA14/I2C1_SDA,USART2_TX,TIM8_CH2,TIM1_BKIN,TSC_G4_IO4,SWCLK-JTCK,EVENTOUT", 77 PA15 (io) "PA15/I2C1_SCL,SPI1_NSS,SPI3_NSS,I2S3_WS,JTDI,USART2_RX,TIM1_BKIN,TIM2_CH1_ETR,TIM8_CH1,EVENTOUT", 78 PC10 (io) "PC10/SPI3_SCK,I2S3_CK,USART3_TX,UART4_TX,TIM8_CH1N,EVENTOUT", 79 PC11 (io) "PC11/SPI3_MISO,I2S3ext_SD,USART3_RX,UART4_RX,TIM8_CH2N,EVENTOUT", 80 PC12 (io) "PC12/SPI3_MOSI,I2S3_SD,USART3_CK,UART5_TX,TIM8_CH3N,EVENTOUT", 81 PD0 (io) "PD0/CAN_RX,EVENTOUT", 82 PD1 (io) "PD1/CAN_TX,TIM8_CH4,TIM8_BKIN2,EVENTOUT", 83 PD2 (io) "PD2/UART5_RX,TIM3_ETR,TIM8_BKIN,EVENTOUT", 84 PD3 (io) "PD3/USART2_CTS,TIM2_CH1_ETR,EVENTOUT", 85 PD4 (io) "PD4/USART2_RTS,TIM2_CH2,EVENTOUT", 86 PD5 (io) "PD5/USART2_TX,EVENTOUT", 87 PD6 (io) "PD6/USART2_RX,TIM2_CH4,EVENTOUT", 88 PD7 (io) "PD7/USART2_CK,TIM2_CH3,EVENTOUT", 89 PB3 (io) "PB3/SPI3_SCK,I2S3_CK,SPI1_SCK,USART2_TX,TIM2_CH2,TIM3_ETR,TIM4_ETR,TIM8_CH1N,TSC_G5_IO1,JTDO-TRACESWO,EVENTOUT", 90 PB4 (io) "PB4/SPI3_MISO,I2S3ext_SD,SPI1_MISO,USART2_RX,TIM3_CH1,TIM16_CH1,TIM17_BKIN,TIM8_CH2N,TSC_G5_IO2,NJTRST,EVENTOUT", 91 PB5 (io) "PB5/SPI3_MOSI,SPI1_MOSI,I2S3_SD,I2C1_SMBA,USART2_CK,TIM16_BKIN,TIM3_CH2,TIM8_CH3N,TIM17_CH1,EVENTOUT", 92 PB6 (io) "PB6/I2C1_SCL,USART1_TX,TIM16_CH1N,TIM4_CH1,TIM8_CH1,TSC_G5_IO3,TIM8_ETR,TIM8_BKIN2,EVENTOUT", 93 PB7 (io) "PB7/I2C1_SDA,USART1_RX,TIM3_CH4,TIM4_CH2,TIM17_CH1N,TIM8_BKIN,TSC_G5_IO4,EVENTOUT", 94 BOOT0 (in) "Boot memory selection", 95 PB8 (io) "PB8/I2C1_SCL,CAN_RX,TIM16_CH1,TIM4_CH3,TIM8_CH2,TIM1_BKIN,TSC_SYNC,COMP1_OUT,EVENTOUT", 96 PB9 (io) "PB9/I2C1_SDA,CAN_TX,TIM17_CH1,TIM4_CH4,TIM8_CH3,IR_OUT,COMP2_OUT,EVENTOUT", 97 PE0 (io) "PE0/USART1_TX,TIM4_ETR,TIM16_CH1,EVENTOUT", 98 PE1 (io) "PE1/USART1_RX,TIM17_CH1,EVENTOUT", 99 VSS_1 (power) "Ground", 100 VDD_1 (power) "Digital power supply"

## TECAP
designator *

## TEN 5 0511
designator *
footprint TEN 5-0511
pins: 2 –Vin, 3 –Vin, 9 No pin., 11 NC, 14 +Vout, 16 –Vout, 22 +Vin , 23 +Vin 

## TEN 8
designator *
footprint TEN 8
pins: 1 R on/off, 2 –Vin, 3 –Vin, 9 No pin., 11 NC, 14 +Vout, 16 –Vout, 22 +Vin , 23 +Vin 

## TLC5947
designator *
footprint TSOP (TSOP, 32-Leads, Body 11,00x6,10mm, Pitch 0,65mm, IPC Medium Density)
pins: 1 GND, 2 BLANK, 3 SCLK, 4 Sin, 5 OUT0, 6 OUT1, 7 OUT2, 8 OUT3, 9 OUT4, 10 OUT5, 11 OUT6, 12 OUT7, 13 OUT8, 14 OUT9, 15 OUT10, 16 OUT11, 17 OUT12, 18 OUT13, 19 OUT14, 20 OUT15, 21 OUT16, 22 OUT17, 23 OUT18, 24 OUT19, 25 OUT20, 26 OUT21, 27 OUT22, 28 OUT23, 29 Sout, 30 XLAT, 31 IREF, 32 Vcc

## Traco_power_TEN3-1221
designator *
footprint Traco_power_TEN3-1221
pins: 2 -Vin, 3 -Vin, 9 Comm, 11 -Vout, 14 +Vout, 16 Comm, 22 +Vin, 23 +Vin

## Transistor NPN
designator Q?
footprint SOT23
pins: 1, 2, 3

## Transistor PNP
designator *
footprint SOT23
pins: 1, 2, 3

## TSM 1205D
designator DC/DC*
footprint TSM 1205D (SOP, 10-Leads, Body 15,24x6,50mm, Pitch 2,54mm, IPC Medium Density)
pins: 1 -Vin, 3 +Vin, 7 Com, 9 -Vout, 12 +Vout

## UART
designator *
footprint UART
pins: 1 VSS, 2 RX, 3 TX, 4 GND

## UM6-LT
designator D?
footprint UM6_LT
pins: 1 TX, 2 RX, 3 PGM, 4 D1 (TX2), 5 D2 (RX2), 6 D3 (MOSI), 7 D4 (MISO), 8 D5 (SCK), 9 D6 (SS), 10 Vdd, 11 GND, 12 GND, 13 3.3V

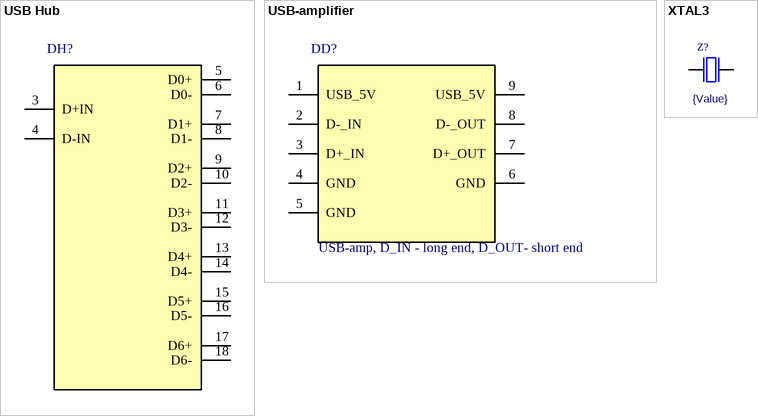
[diagram p4: symbols USB Hub to XTAL3]

## USB Hub
designator DH?  (value not drawn)
footprint USB Hub
pins: 1 USB_5V hidden to USB_5V, 2 GND hidden to GND, 3 D+IN, 4 D-IN, 5 D0+, 6 D0-, 7 D1+, 8 D1-, 9 D2+, 10 D2-, 11 D3+, 12 D3-, 13 D4+, 14 D4-, 15 D5+, 16 D5-, 17 D6+, 18 D6-, 19 USB_5V hidden to USB_5V, 20 USB_5V hidden to USB_5V, 21 USB_5V hidden to USB_5V, 22 USB_5V hidden to USB_5V, 23 USB_5V hidden to USB_5V, 24 USB_5V hidden to USB_5V, 25 USB_5V hidden to USB_5V, 26 GND hidden to GND, 27 GND hidden to GND, 28 GND hidden to GND, 29 GND hidden to GND, 30 GND hidden to GND, 31 GND hidden to GND, 32 GND hidden to GND

## USB-amplifier
designator DD?, comment USB-amp, D_IN - long end, D_OUT- short end
footprint Usb-amp
pins: 1 USB_5V, 2 D-_IN, 3 D+_IN, 4 GND, 5 GND, 6 GND, 7 D+_OUT, 8 D-_OUT, 9 USB_5V

## XTAL3
designator Z?  value {Value}  (hidden comment: *)
XTAL
footprint HC-49-S3
footprint KX-13
footprint hc - 49sm
pins: 1, 2